# Altium schematic symbol library BobinasGenericas.SchLib: 4 symbols
Pins are listed as number, name and electrical type; pins without a type are passive.

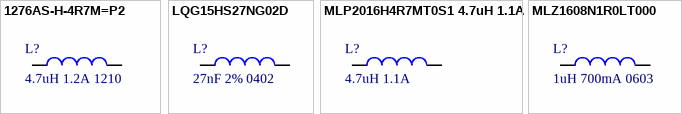
[diagram p0: symbols 1276AS-H-4R7M=P2 to MLZ1608N1R0LT000]

## 1276AS-H-4R7M=P2
designator L?, comment 4.7uH 1.2A 1210
4.7 µH Shielded Wirewound Inductor 1.2 A 264mOhm Max 1210 (3225 Metric); Supplier 1: Digi-Key; Supplier Part Number 1: 490-10585-1-ND; Value: 4.7uH 1.2A 1210
pins: 1, 2

## LQG15HS27NG02D
designator L?, comment 27nF 2% 0402
27 nH Unshielded Multilayer Inductor 350 mA 460mOhm Max 0402 (1005 Metric) -; Supplier 1: Digi-Key; Value: 27nF 2% 0402; Supplier Part Number 1: 490-LQG15HS27NG02DCT-ND
pins: 1, 2

## MLP2016H4R7MT0S1 4.7uH 1.1A
designator L?, comment 4.7uH 1.1A
FIXED IND 4.7UH 1.1A 160 MOHM; Manufacturer: TDK; Manufacturer Part Number: MLP2016H4R7MT0S1; Featured Product: MLP Series Multilayer Ferrite Power Inductor; EDA / CAD Models: Download from Accelerated Designs; Type: Multilayer; Material - Core: Ferrite; Inductance: 4.7µH; Tolerance: ±20%; Shielding: Shielded; DC Resistance (DCR): 200 mOhm Max; Frequency - Test: 2MHz; Online Catalog: MLP Series; Other Names: 445-15726-2  MLP2016H4R7M; Supplier 1: Digi-Key; Stock 1: 20347; Pricing 1: 1=0.33, 10=0.291, 25=0.2548, 50=0.2184, 100=0.2002, 250=0.182, 500=0.1711, 1000=0.131 (USD); Standard Package: 3,000; Category: Inductors, Coils, Chokes; Family: Fixed Inductors; Series: MLP; Packaging: Tape & Reel (TR); Current Rating: 1.1A; Current - Saturation: -; Q @ Freq: -; Frequency - Self Resonant: -; Ratings: -; Operating Temperature: -40°C ~ 125°C; Mounting Type: Surface Mount; Package / Case: 0806 (2016 Metric); Size / Dimension: 0.079" L x 0.063" W (2.00mm x 1.60mm); Height - Seated (Max): 0.039" (1.00mm); ComponentLink1URL: https://media.digikey.com/pdf/Data%20Sheets/TDK%20PDFs/MLP_Series_Br.pdf?src-supplier=Digi-Key; ComponentLink1Description: https://media.digikey.com/pdf/Data%20Sheets/TDK%20PDFs/MLP_Series_Br.pdf?src-supplier=Digi-Key; Supplier Part Number 1: 445-15726-1-ND; Value: 4.7uH 1.1A
pins: 1, 2

## MLZ1608N1R0LT000
designator L?, comment 1uH 700mA 0603
1 µH Shielded Multilayer Inductor 700 mA 110mOhm 0603 (1608 Metric); Supplier 1: Digi-Key; Supplier Part Number 1: 445-6753-1-ND; Value: 1uH 700mA 0603
pins: 1, 2